# EAGLE library part AVR-ICSP6 (library diego)
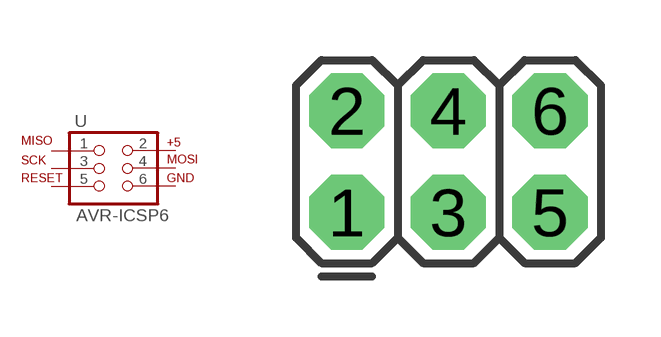
[diagram p5: symbol with the pads of ICSP6; footprint ICSP6]

Designator prefix -

## AVR-ICSP6  [ICSP6]
1  1  pas
2  2  pas
3  3  pas
4  4  pas
5  5  pas
6  6  pas

## Footprint ICSP6 (pad centres in mm)
drill 0.8 pad 1.88 octagon: 1 -2.54,-1.27; 2 -2.54,1.27; 3 0,-1.27; 4 0,1.27; 5 2.54,-1.27; 6 2.54,1.27